# EAGLE library part 691311700108 (library Terminal Blocks)
5.00MM CLOSE VERTICAL PCB HEADER WR-TBL Manufacturer's datasheet <https://katalog.we-online.com/en/em/TBL_5_00_3117_CLOSE_VERTICAL_PCB_HEADER_69131170010X>
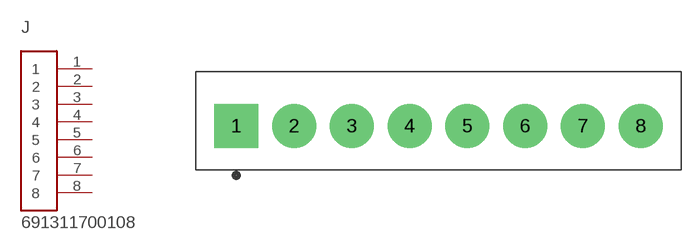
[diagram p1: symbol with the pads of TERMINALBLOCK_PLUGGABLE-8-5MM; footprint TERMINALBLOCK_PLUGGABLE-8-5MM]

Designator prefix J

## 691311700108 (CREATED_BY: PCBLayout.com; DIGIKEY_PART_NO: 732-2792-ND; MANUFACTURER: WURTH ELEKTRONIK; MPN: 691311700108)  [TERMINALBLOCK_PLUGGABLE-8-5MM]
1  1  pas
2  2  pas
3  3  pas
4  4  pas
5  5  pas
6  6  pas
7  7  pas
8  8  pas

## Footprint TERMINALBLOCK_PLUGGABLE-8-5MM (pad centres in mm)
drill 1.6 pad 3.81 square: 1 -17.5,0
drill 1.6 pad 3.81: 2 -12.5,0; 3 -7.5,0; 4 -2.5,0; 5 2.5,0; 6 7.5,0; 7 12.5,0; 8 17.5,0